# Altium footprint library MFL PEAK ANTENNA UNV.PcbLib: 1 footprints
Each footprint in its own frame and in the unit in brackets; x right, y up, seen from the top. Pads: shape width x height; smd on the part's side, far side on the other; paste and mask are expansions set on the pad; w line width, h text height; cw(c..) or ccw(c..) is an arc to the next point about the centre after c.
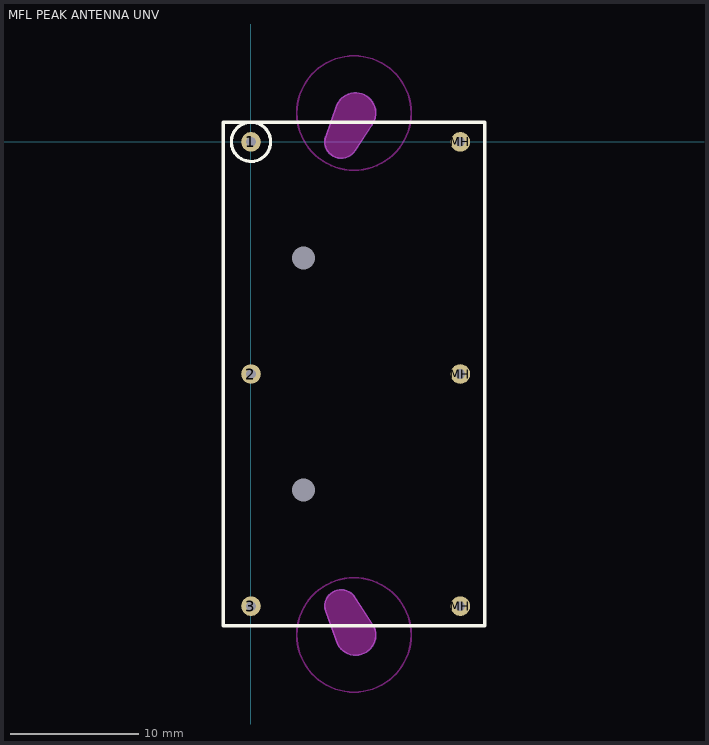
[diagram p0: the footprint, top view; thin cyan lines are the x and y axes]

## MFL PEAK ANTENNA UNV [mil]
pads (9):
  round 60 hole 30: 1(0,0) 2(0,-710) 3(0,-1420) MH(640,-1420) MH(640,-710) MH(640,0)
  round 0 hole 70 unplated: MH(160,-1065) MH(160,-355)
  round 0 all layers, no hole: MH(270,0)
Top Overlay:
  circle w10: c0,0 r60
  lines w10: -85,-1480 715,-1480 715,60 -85,60 -85,-1480
Keep-Out Layer:
  circle w5: c315,-1508 r175
  circle w5: c315,88 r175
  board cut-out: 262.3,-1531.4 229.3,-1438.2 229.29,-1438.2 227.15,-1433.04 225.43,-1419.99 227.15,-1406.94 232.19,-1394.78 240.2,-1384.33 250.64,-1376.32 262.81,-1371.28 275.86,-1369.57 288.91,-1371.28 301.07,-1376.32 311.51,-1384.33 315.84,-1389.98 377.71,-1485.75 380.81,-1495.96 382,-1508.11 380.81,-1520.26 377.26,-1531.94 371.51,-1542.71 363.76,-1552.15 354.33,-1559.89 343.56,-1565.64 331.88,-1569.19 319.73,-1570.38 307.58,-1569.19 295.9,-1565.64 285.13,-1559.89 275.7,-1552.15 267.95,-1542.71 262.2,-1531.94 262.06,-1531.5
  board cut-out: 227.96,15.18 227.08,13.05 225.36,0 227.08,-13.05 232.12,-25.21 240.14,-35.66 250.58,-43.67 262.74,-48.71 275.8,-50.43 288.85,-48.71 301.01,-43.67 311.45,-35.66 318.75,-26.15 318.5,-26 370.01,51.66 370.12,51.58 371.49,53.25 377.25,64.04 380.8,75.74 382,87.91 380.8,100.09 377.25,111.79 371.49,122.58 363.73,132.03 354.27,139.79 343.49,145.56 331.78,149.11 319.61,150.3 307.44,149.11 295.73,145.56 284.95,139.79 275.49,132.03 267.73,122.58 262.44,112.67 262.63,112.58
Mechanical 1:
  lines w5: 262.44,112.67 227.96,15.18 ccw(c275.75,-0.23) 318.75,-26.15 ; 262.63,112.58 cw(c319.61,87.91) 370.01,51.66 ; 318.63,-26.08 370.12,51.58 ; 228.22,-1435.62 cw(c275.59,-1419.64) 315.84,-1389.98 377.71,-1485.75 cw(c319.77,-1507.99) 265.08,-1537.33 228.22,-1435.62
3D body: height 887, standoff -95, extent -72.15,-2600 702.16,1180